# Altium schematic symbol library ICL_mechanical_v1.SchLib: 16 symbols
Pins are listed as number, name and electrical type; pins without a type are passive.

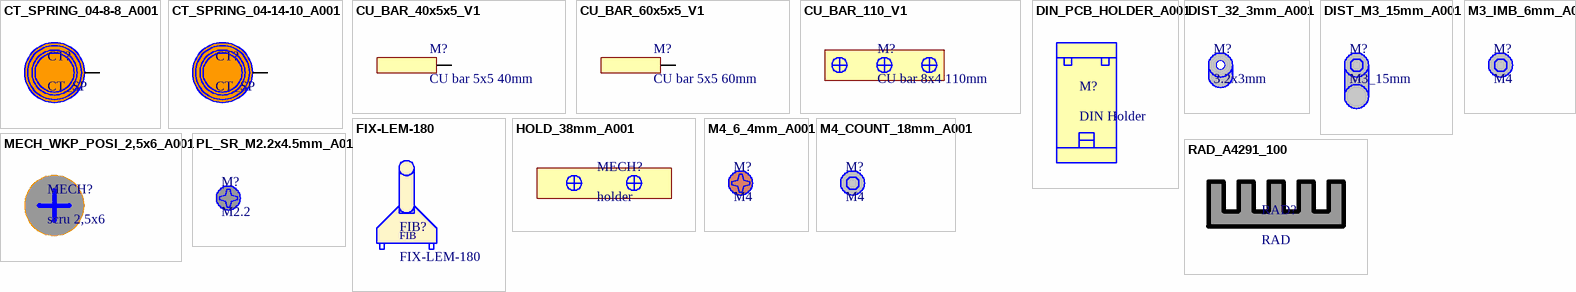
[diagram p0: symbols CT_SPRING_04-8-8_A001 to RAD_A4291_100]

## CT_SPRING_04-8-8_A001
designator CT?, comment CT_SP
THT spring CT fi 8mm; ICLN: MECH_CT_SP_FW_ZX_04x8x8_A001
footprint FW-ZX-0.4x8x8 (spring CT THT)
pins: 1

## CT_SPRING_04-14-10_A001
designator CT?, comment CT_SP
ICLN: MECH_CT_SP_FW_UU_04_14_10_A001
footprint FW-UU-0.4x14x10 (spring)
pins: 1

## CU_BAR_40x5x5_V1
designator M?, comment CU bar 5x5 40mm
ICLN: MECH_BAR_40x5x5_A001
footprint BAR_5x5_40mm_A001
pins: 1 (power)

## CU_BAR_60x5x5_V1
designator M?, comment CU bar 5x5 60mm
ICLN: MECH_BAR_60x5x5_A001
footprint BAR_5x5_60mm_A001
pins: 1 (power)

## CU_BAR_110_V1
designator M?, comment CU bar 8x4 110mm
ICLN: MECH_BAR_8x4_110_A001
footprint BAR_CU_110mm_8x4_50_V1

## DIN_PCB_HOLDER_A001
designator M?, comment DIN Holder
ICLN: M_DIN_HOLD_A001
footprint BOPLA_DIN_HOLDER (BOPLA 22035000)

## DIST_32_3mm_A001
designator M?, comment 3.2x3mm
ICLN: M_DIS_3.2x3mm_A001
footprint DIS_3.2x3mm_A001

## DIST_M3_15mm_A001
designator M?, comment M3_15mm
ICLN: M_DIST_M3_MF_15mm_A001
footprint DIST_M3_15mm_A001

## FIX-LEM-180
designator FIB?
LED fiber; ITSN: FIB_FIX-LEM-180_A001
footprint FIX-LEM-180 (LED  fiber)
text: FIB

## HOLD_38mm_A001
designator MECH?, comment holder
ICLN: HOLD_38mm_8x8_e15_A001
footprint HOLDER_38mm_8x8_15mm_v1

## M3_IMB_6mm_A01
designator M?, comment M4
ICLN: M_SCR_M3x6_IMB_A001
footprint M3_6mm_IMB_A001

## M4_6_4mm_A001
designator M?, comment M4
copper M4 6,4mm philips; ICLN: M_SCR_M4x6_PHI_CU_A001
footprint M4_6_4mm_phi_v1

## M4_COUNT_18mm_A001
designator M?, comment M4
ICLN: M_SCR_M4x16_IMB_A001
footprint M4_counter_18mm_imb_v1

## MECH_WKP_POSI_2,5x6_A001
designator MECH?, comment scru 2,5x6
ICLN: MECH_WKP_POSI_2,5x6_A001
footprint MECH_WKP_POZI_2.5x6_A001 (BOSSARD 3034063)

## PL_SR_M2.2x4.5mm_A01
designator M?, comment M2.2
metal  to plastic screw  M2,2 4,5mm philips BN13577; ICLN: M_PL_SR_M2.2x4.5mm_A01
footprint M2.2_4.5mm_PSC_PHIL_A001 (plastic screws M2.2 L 4.5mm)

## RAD_A4291_100
designator RAD?, comment RAD
ICLN: RAD_A4291_100_P001
footprint RAD_A4291_100_v1